# EAGLE library part BUS-MIXER-V1 (library XM8)
Pre filter source/fx mixer 6 channel input / two bus output + 2 fx in/out with separate wet/dry amps for both busses
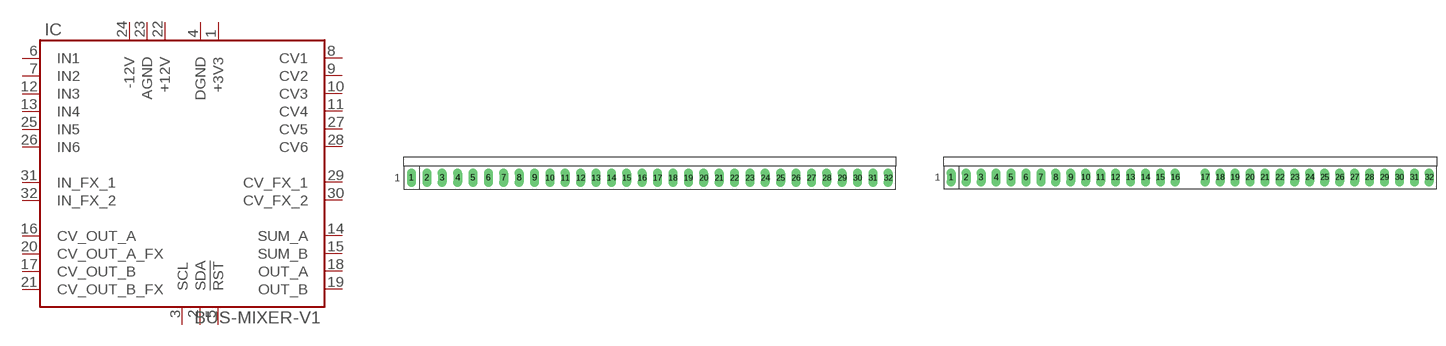
[diagram p24: symbol with the pads of XM8-BUX-MIX-V1.0V; footprints XM8-BUX-MIX-V1.0V, XM8-BUX-MIX-V1.2V]

Designator prefix IC

## BUS-MIXER-V1.0V  [XM8-BUX-MIX-V1.0V]
1  +3V3  pwr
2  SDA
3  SCL
4  DGND  pwr
5  !RST
6  IN1
7  IN2
8  CV1
9  CV2
10  CV3
11  CV4
12  IN3
13  IN4  in
14  SUM_A
15  SUM_B
16  CV_OUT_A
17  CV_OUT_B
18  OUT_A
19  OUT_B
20  CV_OUT_A_FX
21  CV_OUT_B_FX
22  +12V  pwr
23  AGND  pwr
24  -12V  pwr
25  IN5
26  IN6
27  CV5
28  CV6
29  CV_FX_1
30  CV_FX_2
31  IN_FX_1
32  IN_FX_2

## BUS-MIXER-V1.2V  [XM8-BUX-MIX-V1.2V]
Pads as for XM8-BUX-MIX-V1.0V

## BUS-MIXER-V1.2H  [XM8-BUS-MIX-V1.2H]
Pads as for XM8-BUX-MIX-V1.0V

## Footprint XM8-BUX-MIX-V1.0V (pad centres in mm)
Xonik pre filter bus mixer, DG412 version
drill 1.016 long: 1 -39.37,0; 2 -36.83,0; 3 -34.29,0; 4 -31.75,0; 5 -29.21,0; 6 -26.67,0; 7 -24.13,0; 8 -21.59,0; 9 -19.05,0; 10 -16.51,0; 11 -13.97,0; 12 -11.43,0; 13 -8.89,0; 14 -6.35,0; 15 -3.81,0; 16 -1.27,0; 17 1.27,0; 18 3.81,0; 19 6.35,0; 20 8.89,0; 21 11.43,0; 22 13.97,0; 23 16.51,0; 24 19.05,0; 25 21.59,0; 26 24.13,0; 27 26.67,0; 28 29.21,0; 29 31.75,0; 30 34.29,0; 31 36.83,0; 32 39.37,0

## Footprint XM8-BUX-MIX-V1.2V (pad centres in mm)
Xonik pre filter bus mixer, DG412 version
drill 1.016 long: 1 -40.64,0; 2 -38.1,0; 3 -35.56,0; 4 -33.02,0; 5 -30.48,0; 6 -27.94,0; 7 -25.4,0; 8 -22.86,0; 9 -20.32,0; 10 -17.78,0; 11 -15.24,0; 12 -12.7,0; 13 -10.16,0; 14 -7.62,0; 15 -5.08,0; 16 -2.54,0; 17 2.54,0; 18 5.08,0; 19 7.62,0; 20 10.16,0; 21 12.7,0; 22 15.24,0; 23 17.78,0; 24 20.32,0; 25 22.86,0; 26 25.4,0; 27 27.94,0; 28 30.48,0; 29 33.02,0; 30 35.56,0; 31 38.1,0; 32 40.64,0

## Footprint XM8-BUS-MIX-V1.2H (pad centres in mm)
Xonik pre filter bus mixer, DG412 version
drill 1.016 offset: 1 -40.64,0; 2 -38.1,0; 3 -35.56,0; 4 -33.02,0; 5 -30.48,0; 6 -27.94,0; 7 -25.4,0; 8 -22.86,0; 9 -20.32,0; 10 -17.78,0; 11 -15.24,0; 12 -12.7,0; 13 -10.16,0; 14 -7.62,0; 15 -5.08,0; 16 -2.54,0; 17 2.54,0; 18 5.08,0; 19 7.62,0; 20 10.16,0; 21 12.7,0; 22 15.24,0; 23 17.78,0; 24 20.32,0; 25 22.86,0; 26 25.4,0; 27 27.94,0; 28 30.48,0; 29 33.02,0; 30 35.56,0; 31 38.1,0; 32 40.64,0